# Altium schematic symbol library Fuse.SchLib: 5 symbols
Pins are listed as number, name and electrical type; pins without a type are passive.

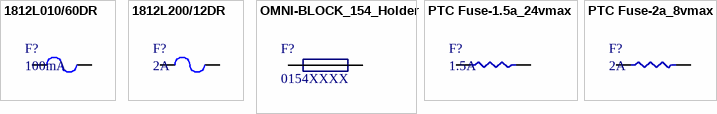
[diagram p0: symbols 1812L010/60DR to PTC Fuse-2a_8vmax]

## 1812L010/60DR
designator F?, comment 100mA
1812L010/60DR -  PPTC Resettable Fuse, SMD, POLY-FUSE 1812L Series, 100 mA, 300 mA, 60 VDC, -40 °C; Supplier 1: Farnell; Supplier 2: Mouser; Supplier 3: Element14; Supplier Part Number 1: 2786589; Supplier Part Number 2: 576-1812L010/60DR; Supplier Part Number 3: 2786589
footprint 1812L010/60DR (POLY-FUSE 1812L Series)
pins: 1, 2

## 1812L200/12DR
designator F?, comment 2A
2A LITTELFUSE PPTC Resettable Fuse, SMD, POLY-FUSE 1812L Series, 2 A
footprint 1812L010/60DR (POLY-FUSE 1812L Series)
pins: 1, 2

## OMNI-BLOCK_154_Holder
designator F?, comment 0154XXXX
Fuse Holder, Surface Mount, OMNI-BLOK Series; Selection: http://www.littelfuse.com/products/fuse-blocks-fuseholders-and-fuse-accessories/fuse-blocks/154.aspx; Supplier 1: Mouser; Supplier 2: Farnell; Supplier 3: RSComponents; Supplier Part Number 1: 576-015406.3DR; Supplier Part Number 2: 1817187; Supplier Part Number 3: 7382854
footprint SMF_154_Omni-Blok (Fuse holder for litteluse nano2 fuses)
pins: 1, 2 100

## PTC Fuse-1.5a_24vmax
designator F?, comment 1.5A
MF-MSMF150/24X; Supplier 1: Farnell; Supplier Part Number 1: 1961502
footprint MF-MSMF_PTC (can be used for all  MF-MSMF PTC resettable fusess)
pins: 1, 2 100

## PTC Fuse-2a_8vmax
designator F?, comment 2A
MF-MSMF200; Supplier 1: Farnell; Supplier Part Number 1: 2134634
footprint MF-MSMF_PTC (can be used for all  MF-MSMF PTC resettable fusess)
pins: 1, 2